# EAGLE library part TPA302 (library ATCUxxxl3U_Synth_4layer)
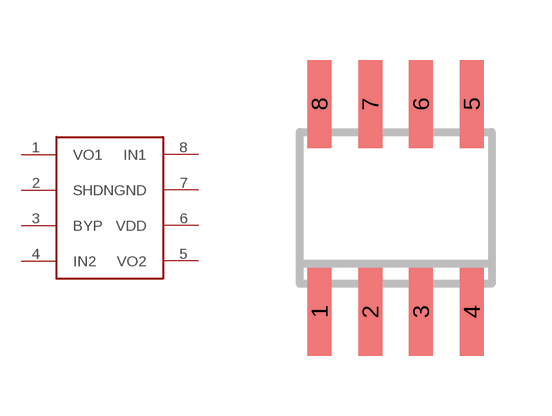
[diagram p1: symbol with the pads of SO-08; footprint SO-08]

Designator prefix -

## TPA302  [SO-08]
1  VO1
2  SHDN
3  BYP
4  IN2
5  VO2
6  VDD
7  GND
8  IN1

## Footprint SO-08 (pad centres in mm)
smd 0.6 x 2.2: 1 -1.905,-2.6; 2 -0.635,-2.6; 3 0.635,-2.6; 4 1.905,-2.6; 5 1.905,2.6; 6 0.635,2.6; 7 -0.635,2.6; 8 -1.905,2.6